# EAGLE library part ATTINY44 (library atmel-new)
Source: http://www.atmel.com/dyn/resources/prod_documents/doc8183.pdf
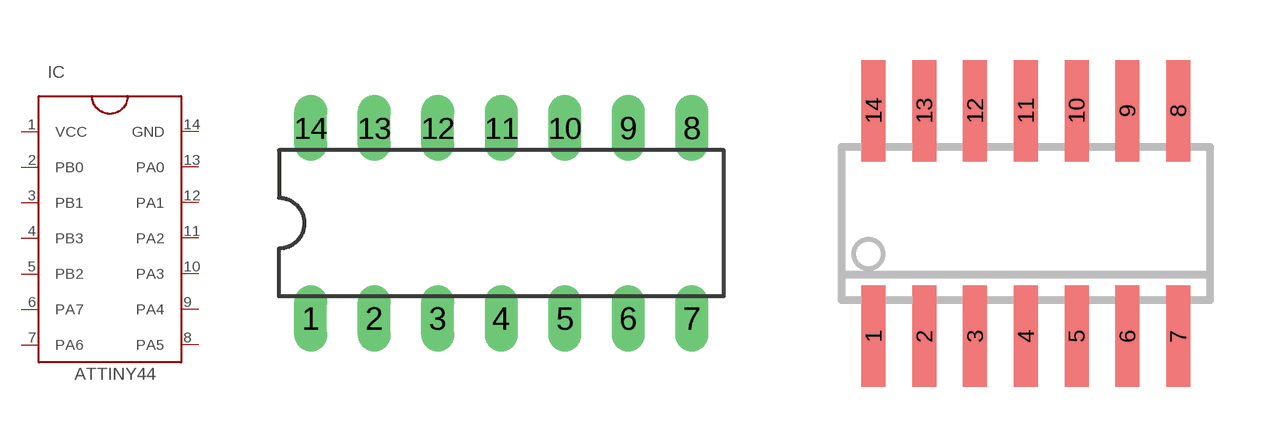
[diagram p0: symbol with the pads of DIL14; footprints DIL14, SO14]

Designator prefix IC

## ATTINY4414P3  [DIL14]
1  VCC  pwr
2  PB0
3  PB1
4  PB3
5  PB2
6  PA7
7  PA6
8  PA5
9  PA4
10  PA3
11  PA2
12  PA1
13  PA0
14  GND  sup

## ATTINY4414S1  [SO14]
Pads as for DIL14

## Footprint DIL14 (pad centres in mm)
DIL-14
drill 0.813 long: 1 -7.62,-3.81; 2 -5.08,-3.81; 3 -2.54,-3.81; 4 0,-3.81; 5 2.54,-3.81; 6 5.08,-3.81; 7 7.62,-3.81; 8 7.62,3.81; 9 5.08,3.81; 10 2.54,3.81; 11 0,3.81; 12 -2.54,3.81; 13 -5.08,3.81; 14 -7.62,3.81

## Footprint SO14 (pad centres in mm)
Small Outline SO-14
smd 0.6 x 2.54: 1 -3.175,-2.822; 2 -1.905,-2.822; 3 -0.635,-2.822; 4 0.635,-2.822; 5 1.905,-2.822; 6 3.175,-2.822; 7 4.445,-2.822; 8 4.445,2.822; 9 3.175,2.822; 10 1.905,2.822; 11 0.635,2.822; 12 -0.635,2.822; 13 -1.905,2.822; 14 -3.175,2.822